# Altium schematic symbol library LM2596.SchLib: 1 symbol
Pins are listed as number, name and electrical type; pins without a type are passive.

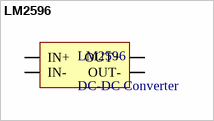
[diagram p0: symbol LM2596]

## LM2596
designator LM2596, comment DC-DC Converter
footprint PCBComponent_1
footprint LM2596
pins: 1 IN+ (power), 2 IN- (power), 3 OUT+ (power), 4 OUT- (power)